# Altium schematic symbol library NX3215SA-32.768K-EXS00A-MU0000.SchLib: 1 symbol
Pins are listed as number, name and electrical type; pins without a type are passive.

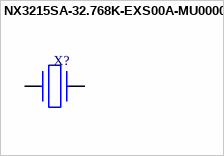
[diagram p0: symbol NX3215SA-32.768K-EXS00A-MU0000]

## NX3215SA-32.768K-EXS00A-MU0000
designator X?
Crystals CRYSTAL 32.768KHZ 12.5PF SMD; Manufacturer_Name: NDK; Manufacturer_Part_Number: NX3215SA-32.768K-EXS00A-MU00003; Geometry.Height: 0.9mm; Mouser Part Number: 344-NX3215SA32.768K3; Mouser Price/Stock: https://www.mouser.co.uk/ProductDetail/NDK/NX3215SA-32.768K-EXS00A-MU00003?qs=w%2Fv1CP2dgqrE9YNksyAN9A%3D%3D; Arrow Part Number: *; Arrow Price/Stock: *; Mouser Testing Part Number: *; Mouser Testing Price/Stock: *; Datasheet Link: https://media.digikey.com/pdf/Data%20Sheets/NDK%20PDFs/NX3215SA-32.768kHz-EXS00A-MU00003.pdf
footprint NX3215SA32768KEXS00AMU00003
pins: 1, 2